# Altium schematic symbol library CORTEX-DEBUG.Schlib: 1 symbol
Pins are listed as number, name and electrical type; pins without a type are passive.

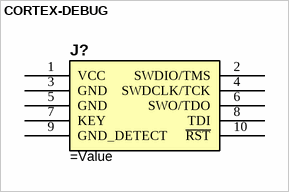
[diagram p0: symbol CORTEX-DEBUG]

## CORTEX-DEBUG
designator J?
SAMTEC - FTSH-105-01-F-DV - .050 X .050
pins: 1 VCC, 2 SWDIO/TMS, 3 GND, 4 SWDCLK/TCK, 5 GND, 6 SWO/TDO, 7 KEY, 8 TDI, 9 GND_DETECT, 10 ~{RST}